# EAGLE library part 50238-040 (library con-aces-50238-series)
ACES CONNECTORS 50238 SERIES ACES Connecors 50238 <https://www.acesconn.com/tw/series/50238-xxxxx-xxx/1290>
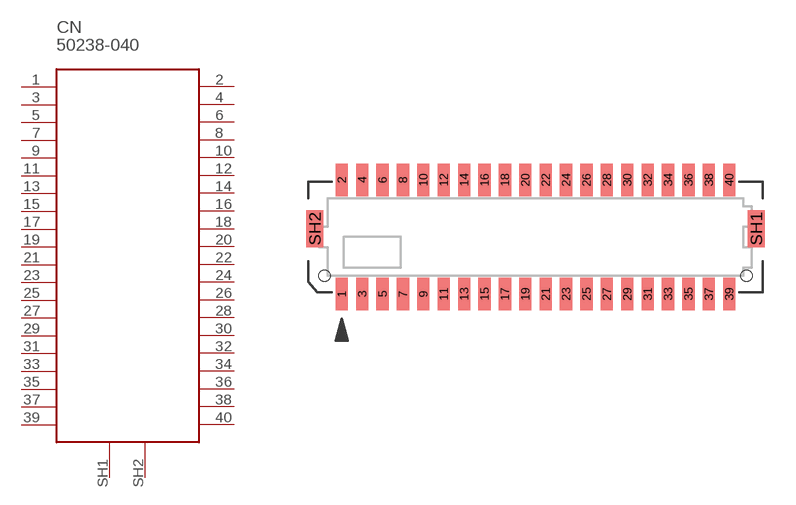
[diagram p11: symbol with the pads of 50238-040; footprint 50238-040]

Designator prefix CN

## 50238-040  [50238-040]
1  1
2  2
3  3
4  4
5  5
6  6
7  7
8  8
9  9
10  10
11  11
12  12
13  13
14  14
15  15
16  16
17  17
18  18
19  19
20  20
21  21
22  22
23  23
24  24
25  25
26  26
27  27
28  28
29  29
30  30
31  31
32  32
33  33
34  34
35  35
36  36
37  37
38  38
39  39
40  40
SH1  SH1
SH2  SH2

## Footprint 50238-040 (pad centres in mm)
smd 0.6 x 1.6: 1 -9.5,-2.8; 2 -9.5,2.8; 3 -8.5,-2.8; 4 -8.5,2.8; 5 -7.5,-2.8; 6 -7.5,2.8; 7 -6.5,-2.8; 8 -6.5,2.8; 9 -5.5,-2.8; 10 -5.5,2.8; 11 -4.5,-2.8; 12 -4.5,2.8; 13 -3.5,-2.8; 14 -3.5,2.8; 15 -2.5,-2.8; 16 -2.5,2.8; 17 -1.5,-2.8; 18 -1.5,2.8; 19 -0.5,-2.8; 20 -0.5,2.8; 21 0.5,-2.8; 22 0.5,2.8; 23 1.5,-2.8; 24 1.5,2.8; 25 2.5,-2.8; 26 2.5,2.8; 27 3.5,-2.8; 28 3.5,2.8; 29 4.5,-2.8; 30 4.5,2.8; 31 5.5,-2.8; 32 5.5,2.8; 33 6.5,-2.8; 34 6.5,2.8; 35 7.5,-2.8; 36 7.5,2.8; 37 8.5,-2.8; 38 8.5,2.8; 39 9.5,-2.8; 40 9.5,2.8
smd 0.85 x 1.8: SH1 10.825,0.4; SH2 -10.825,0.4
hole 0.55 at -10.35,-1.9
hole 0.55 at 10.35,-1.9